# Altium schematic symbol library RESISTOR_SMD.SchLib: 8 symbols
Pins are listed as number, name and electrical type; pins without a type are passive.

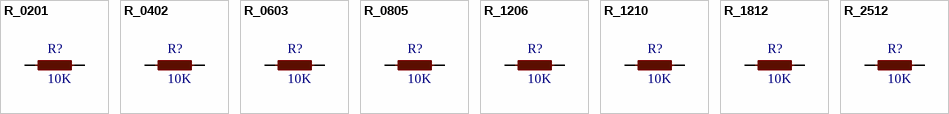
[diagram p0: symbols R_0201 to R_2512]

## R_0201
designator R?, comment 10K
0201 SMD Resistor.; LCSC: *; MPN: *
footprint R_0201 (Resistor SMD 0201.)
pins: 1, 2

## R_0402
designator R?, comment 10K
0402 SMD Resistor.; LCSC: *; MPN: *
footprint R_0402 (Resistor SMD 0402.)
pins: 1, 2

## R_0603
designator R?, comment 10K
0603 SMD Resistor.; LCSC: *; MPN: *
footprint R_0603 (Resistor SMD 0603.)
pins: 1, 2

## R_0805
designator R?, comment 10K
0805 SMD Resistor.; LCSC: *; MPN: *
footprint R_0805 (Resistor SMD 0805.)
pins: 1, 2

## R_1206
designator R?, comment 10K
1206 SMD Resistor.; LCSC: *; MPN: *
footprint R_1206 (Resistor SMD 1206.)
pins: 1, 2

## R_1210
designator R?, comment 10K
1210 SMD Resistor.; LCSC: *; MPN: *
footprint R_1210 (Resistor SMD 1210.)
pins: 1, 2

## R_1812
designator R?, comment 10K
1812 SMD Resistor.; LCSC: *; MPN: *
footprint R_1812 (Resistor SMD 1812.)
pins: 1, 2

## R_2512
designator R?, comment 10K
2512 SMD Resistor.; LCSC: *; MPN: *
footprint R_2512 (Resistor SMD 2512.)
pins: 1, 2